# Altium footprint library B02.PcbLib: 2 footprints
Each footprint in its own frame and in the unit in brackets; x right, y up, seen from the top. Pads: shape width x height; smd on the part's side, far side on the other; paste and mask are expansions set on the pad; w line width, h text height; cw(c..) or ccw(c..) is an arc to the next point about the centre after c.
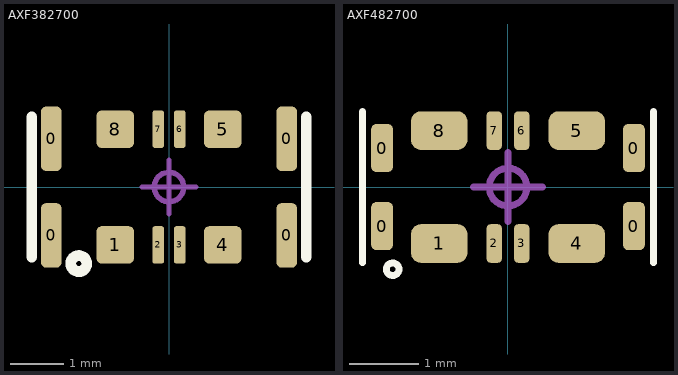
[diagram p0: the footprints below, top view; thin cyan lines are the x and y axes]

## AXF382700 [mm]
pads (12):
  rrect50% 0.38x1.2 smd: 0(-2.188,-0.898) 0(-2.188,0.898) 0(2.188,-0.898) 0(2.188,0.898)
  rrect30% 0.7x0.7 smd: 1(-1,-1.075) 4(1,-1.075) 5(1,1.075) 8(-1,1.075)
  rrect50% 0.22x0.7 smd: 2(-0.2,-1.075) 3(0.2,-1.075) 6(0.2,1.075) 7(-0.2,1.075)
Top Overlay:
  circle w0.2: c-1.676,-1.422 r0.148
  lines w0.2: -2.552,-1.3 -2.552,1.3 ; 2.552,-1.3 2.552,1.3
Mechanical 15 (Mech15):
  circle w0.1: c0,0 r0.274
  lines w0.1: -0.5,0 0,0 ; 0,-0.5 0,0 ; 0,0.5 0,0 ; 0.5,0 0,0
3D body "axf382700.step": height 0.69, standoff 0, extent -2.425,-1.1 2.425,1.1

## AXF482700 [mm]
pads (12):
  rrect50% 0.32x0.7 smd: 0(-1.83,-0.567) 0(-1.83,0.568) 0(1.83,-0.567) 0(1.83,0.568)
  rrect50% 0.819x0.56 smd: 1(-1,-0.82) 4(1,-0.82) 5(1,0.82) 8(-1,0.82)
  rrect50% 0.22x0.56 smd: 2(-0.2,-0.82) 3(0.2,-0.82) 6(0.2,0.82) 7(-0.2,0.82)
Top Overlay:
  circle w0.1: c-1.676,-1.194 r0.092
  lines w0.1: -2.117,-1.1 -2.117,1.1 ; 2.117,-1.1 2.117,1.1
Mechanical 15 (Mech15):
  circle w0.1: c0,0 r0.274
  lines w0.1: -0.5,0 0,0 ; 0,-0.5 0,0 ; 0,0.5 0,0 ; 0.5,0 0,0
3D body "axf482700.step": height 0.55, standoff 0, extent -2.08,-0.9 2.08,0.9